# Altium footprint library DRV8833PWPR.PcbLib: 3 footprints
Each footprint in its own frame and in the unit in brackets; x right, y up, seen from the top. Pads: shape width x height; smd on the part's side, far side on the other; paste and mask are expansions set on the pad; w line width, h text height; cw(c..) or ccw(c..) is an arc to the next point about the centre after c.
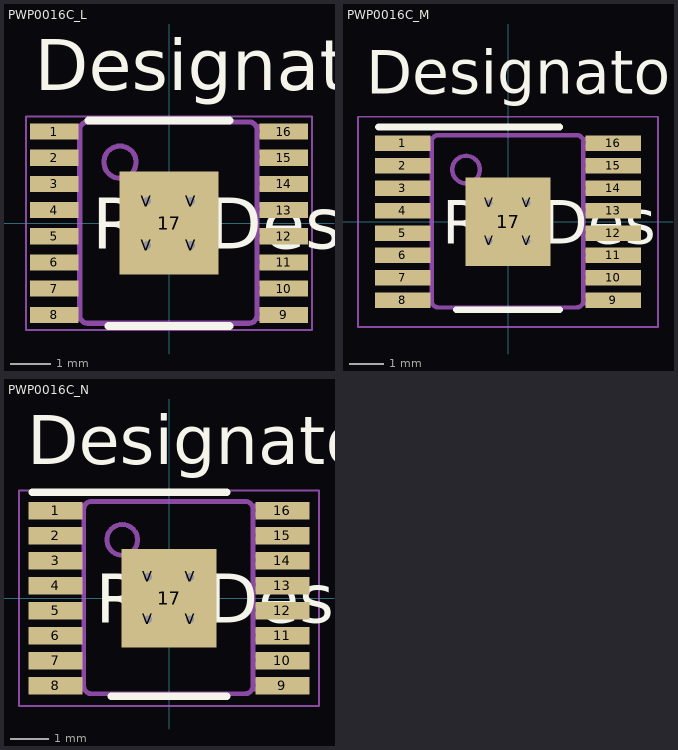
[diagram p0: the footprints below, top view; thin cyan lines are the x and y axes]

## PWP0016C_L [mm]
pads (21):
  rect 1.2x0.4 smd paste+0 mask+0.051: 1(-2.85,2.275) 2(-2.85,1.625) 3(-2.85,0.975) 4(-2.85,0.325) 5(-2.85,-0.325) 6(-2.85,-0.975) 7(-2.85,-1.625) 8(-2.85,-2.275) 9(2.85,-2.275) 10(2.85,-1.625) 11(2.85,-0.975) 12(2.85,-0.325) 13(2.85,0.325) 14(2.85,0.975) 15(2.85,1.625) 16(2.85,2.275)
  rect 2.46x2.56 smd paste+0 mask+0.051: 17(0,0)
  round 0.5 / inner round 1.524 / far side round 0.5 hole 0.203 paste-0.25 mask+0.051: V(-0.55,-0.55) V(-0.55,0.55) V(0.55,-0.55) V(0.55,0.55)
Top Overlay:
  lines w0.2: -2,2.55 1.5,2.55 ; -1.5,-2.55 1.5,-2.55
  text "Designator17" at -3.327,3.302 h1.27
  text "RefDes" at -1.905,-0.635 h1.27
Mechanical 13:
  drawing of 202 lines, arcs and shapes, not listed
Mechanical 15:
  lines w0.05: -3.55,-2.65 -3.55,2.65 3.55,2.65 3.55,-2.65 -3.55,-2.65
  lines w0.1: -0.5,0 0.5,0 ; 0,-0.5 0,0.5

## PWP0016C_M [mm]
pads (21):
  rect 1.6x0.45 smd paste+0 mask+0.051: 1(-3.05,2.275) 2(-3.05,1.625) 3(-3.05,0.975) 4(-3.05,0.325) 5(-3.05,-0.325) 6(-3.05,-0.975) 7(-3.05,-1.625) 8(-3.05,-2.275) 9(3.05,-2.275) 10(3.05,-1.625) 11(3.05,-0.975) 12(3.05,-0.325) 13(3.05,0.325) 14(3.05,0.975) 15(3.05,1.625) 16(3.05,2.275)
  rect 2.46x2.56 smd paste+0 mask+0.051: 17(0,0)
  round 0.5 / inner round 1.524 / far side round 0.5 hole 0.203 paste-0.25 mask+0.051: V(-0.55,-0.55) V(-0.55,0.55) V(0.55,-0.55) V(0.55,0.55)
Top Overlay:
  lines w0.2: -3.75,2.75 1.5,2.75 ; -1.5,-2.55 1.5,-2.55
  text "Designator16" at -4.115,3.708 h1.27
  text "RefDes" at -1.905,-0.635 h1.27
Mechanical 13:
  drawing of 202 lines, arcs and shapes, not listed
Mechanical 15:
  lines w0.05: -4.35,-3.05 -4.35,3.05 4.35,3.05 4.35,-3.05 -4.35,-3.05
  lines w0.1: -0.5,0 0.5,0 ; 0,-0.5 0,0.5

## PWP0016C_N [mm]
pads (21):
  rect 1.4x0.45 smd paste+0 mask+0.051: 1(-2.95,2.275) 2(-2.95,1.625) 3(-2.95,0.975) 4(-2.95,0.325) 5(-2.95,-0.325) 6(-2.95,-0.975) 7(-2.95,-1.625) 8(-2.95,-2.275) 9(2.95,-2.275) 10(2.95,-1.625) 11(2.95,-0.975) 12(2.95,-0.325) 13(2.95,0.325) 14(2.95,0.975) 15(2.95,1.625) 16(2.95,2.275)
  rect 2.46x2.56 smd paste+0 mask+0.051: 17(0,0)
  round 0.5 / inner round 1.524 / far side round 0.5 hole 0.203 paste-0.25 mask+0.051: V(-0.55,-0.55) V(-0.55,0.55) V(0.55,-0.55) V(0.55,0.55)
Top Overlay:
  lines w0.2: -3.55,2.75 1.5,2.75 ; -1.5,-2.55 1.5,-2.55
  text "Designator15" at -3.683,3.48 h1.27
  text "RefDes" at -1.905,-0.635 h1.27
Mechanical 13:
  drawing of 202 lines, arcs and shapes, not listed
Mechanical 15:
  lines w0.05: -3.9,-2.8 -3.9,2.8 3.9,2.8 3.9,-2.8 -3.9,-2.8
  lines w0.1: -0.5,0 0.5,0 ; 0,-0.5 0,0.5